# Altium schematic symbol library 3PEAK_TPT71044.SchLib: 1 symbol
Pins are listed as number, name and electrical type; pins without a type are passive.

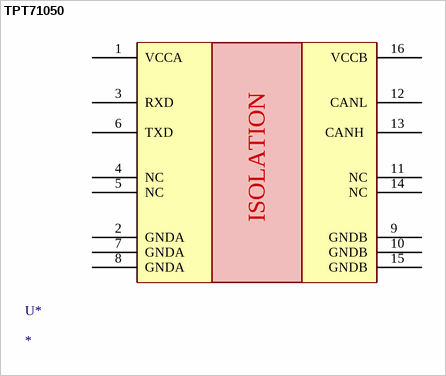
[diagram p0: symbol TPT71050]

## TPT71050
designator U*
footprint SOIC127P1040X265-16N (SOIC, 16-Leads, Body 10,35x7,50mm, Pitch 1,27mm, IPC Medium Density)
pins: 1 VCCA, 2 GNDA, 3 RXD, 6 TXD, 7 GNDA, 8 GNDA, 9 GNDB, 10 GNDB, 11 NC, 12 CANL, 13 CANH , 14 NC, 15 GNDB, 16 VCCB,  4 NC,  5 NC
text: ISOLATION